# Altium footprint library SparkFun-Electromechanical.PCBLIB: 151 footprints (part 11 of 11)
Each footprint in its own frame and in the unit in brackets; x right, y up, seen from the top. Pads: shape width x height; smd on the part's side, far side on the other; paste and mask are expansions set on the pad; w line width, h text height; cw(c..) or ccw(c..) is an arc to the next point about the centre after c.
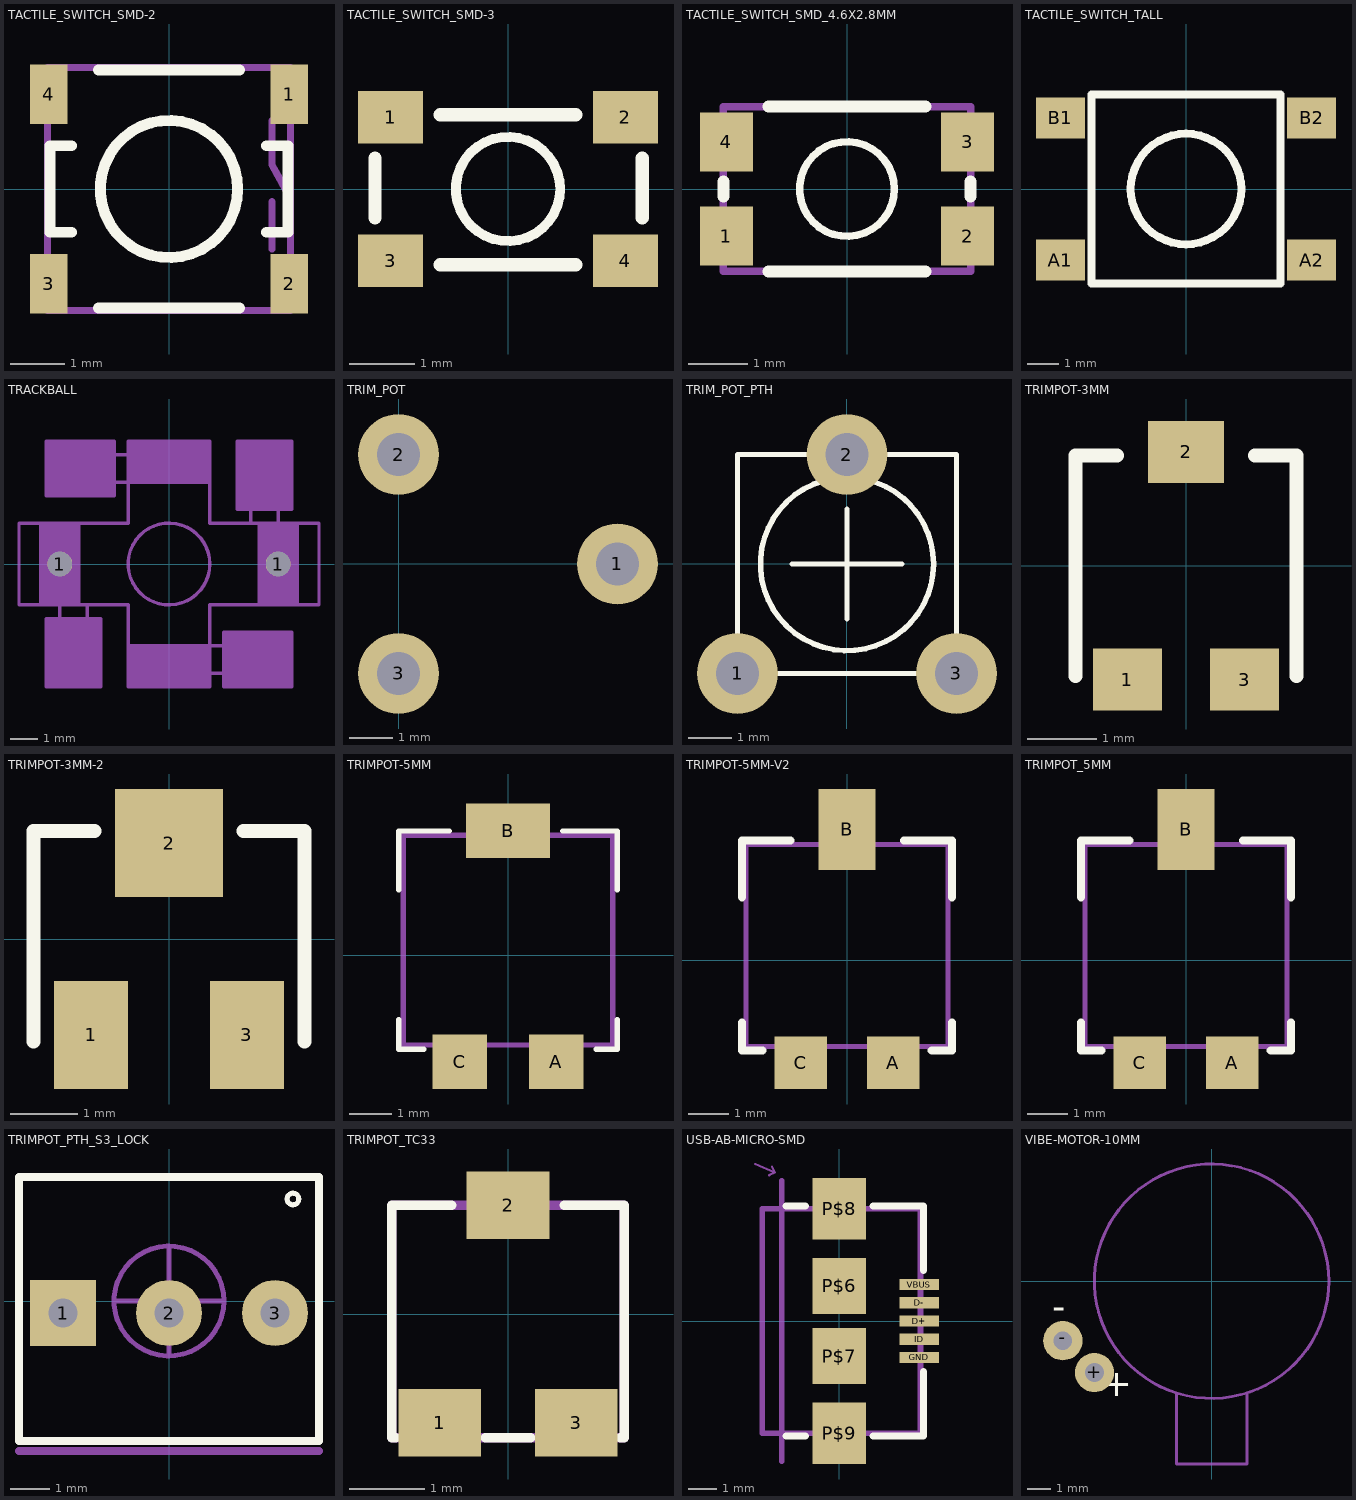
[diagram p10: the footprints below, top view; thin cyan lines are the x and y axes]

## TACTILE_SWITCH_SMD-2 [mil]
pads (4):
  rect 27.56x43.31 smd: 1(87.6,68.9) 2(87.6,-68.9) 3(-87.6,-68.9) 4(-87.6,68.9)
Top Overlay:
  circle w8: c0,0 r50
  lines w8: -70.87,-31.5 -86.61,-31.5 -86.61,31.5 -70.87,31.5 ; -51.18,-86.61 51.18,-86.61 ; -51.18,86.61 51.18,86.61 ; 70.87,-31.5 86.61,-31.5 86.61,31.5 70.87,31.5
Mechanical 16:
  lines w5: 75,-43.9 75,-9.06 ; 75,50 75,17.52 85.04,-0.39 ; -88.58,-88.58 88.58,-88.58 88.58,88.58 -88.58,88.58 -88.58,-88.58

## TACTILE_SWITCH_SMD-3 [mil]
pads (4):
  rect 39.37x31.5 smd: 1(-70.87,43.31) 2(70.87,43.31) 3(-70.87,-43.31) 4(70.87,-43.31)
Top Overlay:
  circle w5.91: c0,0 r31.5
  lines w8: -80.32,-17.32 -80.32,18.5 ; -40.94,-45.67 40.94,-45.67 ; -40.94,44.88 40.94,44.88 ; 81.1,-17.32 81.1,18.5

## TACTILE_SWITCH_SMD_4.6X2.8MM [mil]
pads (4):
  rect 35.43x39.37 smd: 1(-80.71,-31.5) 2(80.71,-31.5) 3(80.71,31.5) 4(-80.71,31.5)
Top Overlay:
  circle w5: c0,0 r31.69
  lines w8: -82.68,-5.12 -82.68,5.12 ; -52.68,-55.12 52.68,-55.12 ; -52.68,55.12 52.68,55.12 ; 82.68,-5.12 82.68,5.12
Mechanical 16:
  rectangle: -90.55,19.69 -82.68,43.31
  rectangle: -90.55,-43.31 -82.68,-19.69
  region: 90.55,-19.69 82.68,-19.69 82.68,-43.31 90.55,-43.31
  region: 90.55,43.31 82.68,43.31 82.68,19.69 90.55,19.69
  lines w5: -82.68,-55.12 -82.68,55.12 82.68,55.12 82.68,-55.12 -82.68,-55.12

## TACTILE_SWITCH_TALL [mil]
pads (4):
  rect 61.02x51.18 smd: A1(-156.5,-88.58) A2(156.5,-88.58) B1(-156.5,88.58) B2(156.5,88.58)
Top Overlay:
  circle w10: c0,0 r68.9
  lines w10: -118.11,-118.11 118.11,-118.11 118.11,118.11 -118.11,118.11 -118.11,-118.11

## TRACKBALL [mm]
pads (2):
  round 0.9 hole 0.9: 1(-4,0) 1(4,0)
Mechanical 12:
  lines w0.127: -4.7,-1.5 -4.7,1.5 -3.3,1.5 -3.3,-1.5 -4.7,-1.5 ; -4.5,-4.5 -2.5,-4.5 -2.5,-2 -4.5,-2 -4.5,-4.5 ; -4.5,2.5 -2,2.5 -2,4.5 -4.5,4.5 -4.5,2.5 ; -1.5,-4.4 1.5,-4.4 1.5,-3 -1.5,-3 -1.5,-4.4 ; -1.5,3 1.5,3 1.5,4.4 -1.5,4.4 -1.5,3 ; 2,-4.5 2,-2.5 4.5,-2.5 4.5,-4.5 2,-4.5 ; 2.5,2 4.5,2 4.5,4.5 2.5,4.5 2.5,2 ; 3.3,-1.5 4.7,-1.5 4.7,1.5 3.3,1.5 3.3,-1.5
Mechanical 16:
  circle w0.127: c0,0 r1.5
  lines w0.127: -4,-2 -4,-1.5 ; -3,-2 -3,-1.5 ; -2,3 -1.5,3 ; -2,4 -1.5,4 ; 2,-4 1.5,-4 ; 2,-3 1.5,-3 ; 3,2 3,1.5 ; 4,2 4,1.5 ; -4,-1.5 -5.5,-1.5 -5.5,1.5 -1.5,1.5 -1.5,3 ; -4,-1.5 -3,-1.5 ; -3,-1.5 -1.5,-1.5 -1.5,-4.5 1.5,-4.5 1.5,-4 ; -1.5,3 -1.5,4 ; -1.5,4 -1.5,4.5 1.5,4.5 1.5,1.5 3,1.5 ; 1.5,-4 1.5,-3 ; 1.5,-3 1.5,-1.5 5.5,-1.5 5.5,1.5 4,1.5 ; 3,1.5 4,1.5
Mechanical 27:
  rectangle: -4.7,-1.5 -3.3,1.5
  rectangle: -1.5,3 1.5,4.4
  rectangle: 3.3,-1.5 4.7,1.5
  rectangle: -1.5,-4.4 1.5,-3
Mech48:
  rectangle: 2,-4.5 4.5,-2.5
  rectangle: -4.5,-4.5 -2.5,-2
  rectangle: -4.5,2.5 -2,4.5
  rectangle: 2.5,2 4.5,4.5

## TRIM_POT [mil]
pads (3):
  round 74 hole 39.37: 1(200,0) 2(0,100) 3(0,-100)

## TRIM_POT_PTH [mil]
pads (3):
  round 74 hole 39.37: 1(-100,-100) 2(0,100) 3(100,-100)
Top Overlay:
  circle w5: c0,0 r79.06
  lines w5: -50,0 0,0 ; 0,-50 0,0 ; 0,50 0,0 ; 50,0 0,0 ; -100,-100 -100,100 100,100 100,-100 -100,-100

## TRIMPOT-3MM [mm]
pads (3):
  rect 1x0.9 smd: 1(-0.85,-1.65) 3(0.85,-1.65)
  rect 1.1x0.9 smd: 2(0,1.65)
Top Overlay:
  lines w0.203: -1.6,-1.6 -1.6,1.6 -1,1.6 ; 1,1.6 1.6,1.6 1.6,-1.6

## TRIMPOT-3MM-2 [mil]
pads (3):
  rect 43x63 smd: 1(-45.46,-55.96) 3(45.46,-55.96)
  rect 63x63 smd: 2(0,55.96)
Top Overlay:
  lines w8: -78.99,-59.99 -78.99,62.99 -43.37,62.99 ; 43.37,62.99 78.99,62.99 78.99,-59.99

## TRIMPOT-5MM [mm]
pads (3):
  rect 1.3x1.3 smd: A(1.15,-2.54) C(-1.15,-2.54)
  rect 2x1.3 smd: B(0,2.96)
Top Overlay:
  lines w0.127: -2.6,-1.54 -2.6,-2.24 -2,-2.24 ; -2.6,1.56 -2.6,2.96 -1.4,2.96 ; 1.3,2.96 2.6,2.96 2.6,1.56 ; 2.1,-2.24 2.6,-2.24 2.6,-1.54
Mechanical 16:
  lines w0.127: -2.5,-2.14 0,-2.14 2.5,-2.14 2.5,2.86 -2.5,2.86 -2.5,-2.14

## TRIMPOT-5MM-V2 [mil]
pads (3):
  rect 51.18x51.18 smd: A(45.28,-100) C(-45.28,-100)
  rect 55.18x78.74 smd: B(0,127.5)
Top Overlay:
  lines w8: -102.36,-60.63 -102.36,-88.19 -82.44,-88.19 ; -102.36,61.42 -102.36,116.54 -55.12,116.54 ; 55.48,116.54 102.36,116.54 102.36,61.42 ; 82.68,-88.19 102.36,-88.19 102.36,-60.63
Mechanical 16:
  lines w5: -98.43,-84.25 -98.43,112.6 98.43,112.6 98.43,-84.25 -98.43,-84.25

## TRIMPOT_5MM [mil]
pads (3):
  rect 51.18x51.18 smd: A(45.28,-100) C(-45.28,-100)
  rect 55.18x78.74 smd: B(0,127.5)
Top Overlay:
  lines w8: -102.36,-60.63 -102.36,-88.19 -82.44,-88.19 ; -102.36,61.42 -102.36,116.54 -55.12,116.54 ; 55.48,116.54 102.36,116.54 102.36,61.42 ; 82.68,-88.19 102.36,-88.19 102.36,-60.63
Mechanical 16:
  lines w5: -98.43,-84.25 -98.43,112.6 98.43,112.6 98.43,-84.25 -98.43,-84.25

## TRIMPOT_PTH_S3_LOCK [mil]
pads (3):
  rect 66x66 hole 29: 1(-106,-12)
  round 66 hole 29: 2(0,-12) 3(106,-12)
Top Overlay:
  circle w5: c124,102 r5.83
  lines w8: -150,-140 150,-140 150,124 -150,124 -150,-140
Mechanical 16:
  circle w5: c0,0 r55
  circle w1: c-100,-11 r9
  circle w1: c0,-11 r9
  circle w1: c100,-11 r9
  lines w5: -55,0 55,0 ; 0,-55 0,55
  lines w8: -150,-150 150,-150

## TRIMPOT_TC33 [mil]
pads (3):
  rect 43.31x35.43 smd: 1(-35.83,-57.09) 2(0,57.09) 3(35.83,-57.09)
Top Overlay:
  lines w5: -59.06,-64.96 -61.02,-64.96 -61.02,57.09 -29.53,57.09 ; -11.81,-64.96 11.81,-64.96 ; 29.53,57.09 61.02,57.09 61.02,-64.96 59.06,-64.96
Mechanical 16:
  lines w5: -61.02,-64.96 61.02,-64.96 61.02,57.09 -61.02,57.09 -61.02,-64.96

## USB-AB-MICRO-SMD [mm]
pads (9):
  rect 1.4x0.4 smd: D+(2.85,0) D-(2.85,0.65) GND(2.85,-1.3) ID(2.85,-0.65) VBUS(2.85,1.3)
  rect 1.9x2 smd: P$6(0,1.25) P$7(0,-1.25)
  rect 1.9x2.2 smd: P$8(0,4) P$9(0,-4)
Top Overlay:
  lines w0.254: -1.9,-4.1 -1.2,-4.1 ; -1.9,4.1 -1.2,4.1 ; 1.2,-4.1 3,-4.1 3,-1.8 ; 1.2,4.1 3,4.1 3,1.8
Mechanical 16:
  lines w0.08: -3,5.6 -2.3,5.3 ; -2.5,5.2 -2.3,5.3 ; -2.4,5.5 -2.3,5.3
  lines w0.203: -2.75,-4 -2.75,4 ; -2.7,-4 2.9,-4 2.9,4 0.6,4 ; -2.7,4 -0.6,4 ; -2.05,-5 -2.05,5 ; -0.6,-4 -0.6,-4.6 0.6,-4.6 0.6,-4 ; -0.6,4 0.6,4 ; -0.6,4 -0.6,4.6 0.6,4.6 0.6,4
  text "PCB Front" at -5.2,5.5 h0.47

## VIBE-MOTOR-10MM [mil]
pads (2):
  round 66 hole 31.5: +(-196.85,-153.54) -(-250,-100)
Top Overlay:
  text "-" at -267.72,-78.74 h77.5
  text "+" at -185.04,-208.66 h77.5
Mechanical 16:
  circle w5: c0,0 r196.89
  lines w5: -59.06,-188.98 -59.06,-307.09 59.06,-307.09 59.06,-188.98